# Altium schematic symbol library Sheye-Capacitor.SchLib: 213 symbols
Pins are listed as number, name and electrical type; pins without a type are passive.

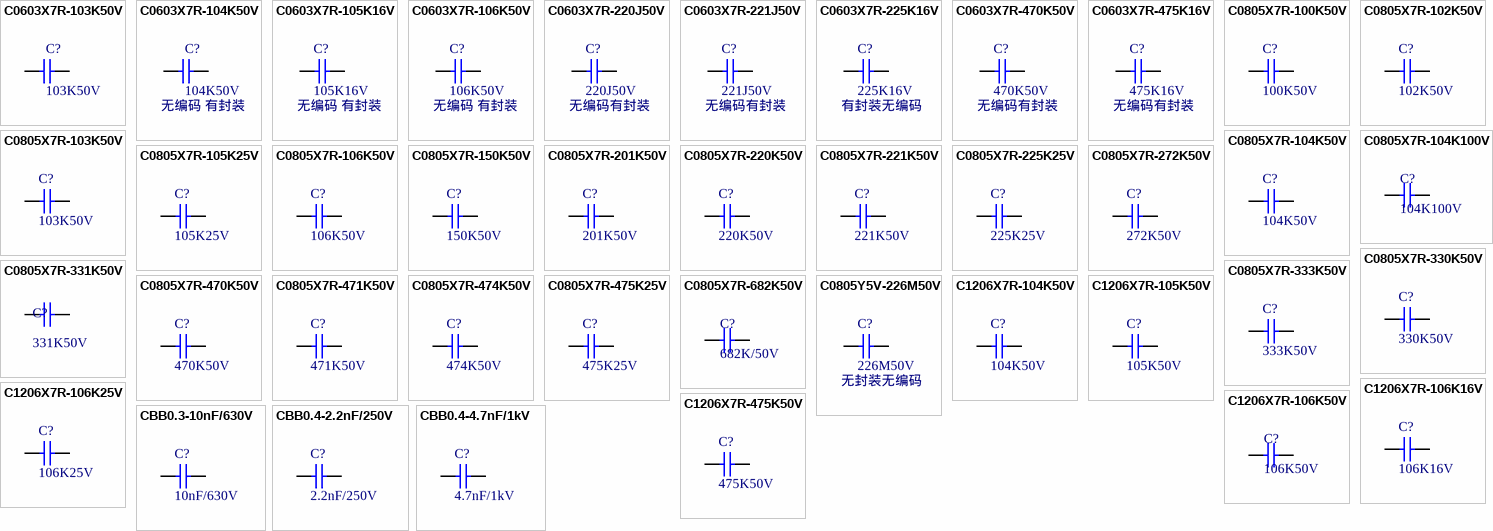
[diagram p0: symbols C0603X7R-103K50V to CBB0.4-4.7nF/1kV]

## C0603X7R-103K50V
designator C?, comment 103K50V
贴片电容-陶瓷; 规格型号: 10nF±10%_50V_X7R_C0603; 货品编码: 301075; 生产商|UNIQU: 风华 三星; 供应商: *; 备注: *
footprint C0603
pins: 1, 2

## C0603X7R-104K50V
designator C?, comment 104K50V
贴片电容-陶瓷; 规格型号: 100nF±10%_50V_X7R_C0603; 生产商|UNIQU: 风华 三星; 供应商: *; 备注: *
footprint C0603
pins: 1, 2
text: 无编码 有封装

## C0603X7R-105K16V
designator C?, comment 105K16V
贴片电容-陶瓷; 规格型号: 1uF±10%_16V_X7R_C0603; 生产商|UNIQU: 风华 三星; 供应商: *; 备注: *
footprint C0603
pins: 1, 2
text: 无编码 有封装

## C0603X7R-106K50V
designator C?, comment 106K50V
贴片电容-陶瓷; 规格型号: 10uF±10%_50V_X7R_C0603; 生产商|UNIQU: 风华 三星; 供应商: *; 备注: *
footprint C0603
pins: 1, 2
text: 无编码 有封装

## C0603X7R-220J50V
designator C?, comment 220J50V
贴片电容-陶瓷; 规格型号: 22pF±5%_50V_X7R_C0603; 生产商|UNIQU: 风华 三星; 供应商: *; 备注: *
footprint C0603
pins: 1, 2
text: 无编码有封装

## C0603X7R-221J50V
designator C?, comment 221J50V
贴片电容-陶瓷; 规格型号: 220pF±5%_50V_X7R_C0603; 生产商|UNIQU: 风华 三星; 供应商: *; 备注: *
footprint C0603
pins: 1, 2
text: 无编码有封装

## C0603X7R-225K16V
designator C?, comment 225K16V
贴片电容-陶瓷; 规格型号: 2.2uF±10%_16V_X7R_C0603; 生产商|UNIQU: 风华 三星; 供应商: *; 备注: *
footprint C0603
pins: 1, 2
text: 有封装无编码

## C0603X7R-470K50V
designator C?, comment 470K50V
贴片电容-陶瓷; 规格型号: 47pF±10%_50V_X7R_C0603; 生产商|UNIQU: 风华 三星; 供应商: *; 备注: *
footprint C0603
pins: 1, 2
text: 无编码有封装

## C0603X7R-475K16V
designator C?, comment 475K16V
贴片电容-陶瓷; 规格型号: 4.7uF±10%_16V_X7R_C0603; 生产商|UNIQU: 风华 三星; 供应商: *; 备注: *
footprint C0603
pins: 1, 2
text: 无编码有封装

## C0805X7R-100K50V
designator C?, comment 100K50V
贴片电容-陶瓷; 规格型号: 10pF±10%_50V_X7R_C0805; 货品编码: 301002; 生产商|UNIQU: 风华 三星; 供应商: *; 备注: *
footprint C0805
pins: 1, 2

## C0805X7R-102K50V
designator C?, comment 102K50V
贴片电容-陶瓷; 规格型号: 1nF±10%_50V_X7R_C0805; 货品编码: 301035; 生产商|UNIQU: 风华 三星; 供应商: *; 备注: *
footprint C0805
pins: 1, 2

## C0805X7R-103K50V
designator C?, comment 103K50V
贴片电容-陶瓷; 规格型号: 10nF±10%_50V_X7R_C0805; 货品编码: 301006; 生产商|UNIQU: 风华 三星; 供应商: *; 备注: *
footprint C0805
pins: 1, 2

## C0805X7R-104K50V
designator C?, comment 104K50V
贴片电容-陶瓷; 规格型号: 100nF±10%_50V_X7R_C0805; 货品编码: 301007; 生产商|UNIQU: 风华 三星; 供应商: *; 备注: *
footprint C0805
pins: 1, 2

## C0805X7R-104K100V
designator C?, comment 104K100V
贴片电容-陶瓷; 规格型号: 100nF±10%_100V_X7R_C0805; 货品编码: 301039; 供应商: *; 备注: *
footprint C0805
pins: 1, 2

## C0805X7R-105K25V
designator C?, comment 105K25V
贴片电容-陶瓷; 规格型号: 1uF±10%_25V_X7R_C0805; 货品编码: 301012; 生产商|UNIQU: 风华 三星; 供应商: *; 备注: *
footprint C0805
pins: 1, 2

## C0805X7R-106K50V
designator C?, comment 106K50V
贴片电容-陶瓷; 规格型号: 10uF±10%_50V_X7R_C0805; 货品编码: 301014; 生产商|UNIQU: 风华 三星; 供应商: *; 备注: *
footprint C0805
pins: 1, 2

## C0805X7R-150K50V
designator C?, comment 150K50V
贴片电容-陶瓷; 规格型号: 15pF±10%_50V_X7R_C0805; 货品编码: 301022; 生产商|UNIQU: 风华 三星; 供应商: *; 备注: *
footprint C0805
pins: 1, 2

## C0805X7R-201K50V
designator C?, comment 201K50V
贴片电容-陶瓷; 规格型号: 200pF±10%_50V_X7R_C0805; 货品编码: 301026; 生产商|UNIQU: 风华 三星; 供应商: *; 备注: *
footprint C0805
pins: 1, 2

## C0805X7R-220K50V
designator C?, comment 220K50V
贴片电容-陶瓷; 规格型号: 22pF±10%_50V_X7R_C0805; 货品编码: 301003; 生产商|UNIQU: 风华  三星; 供应商: *; 备注: *
footprint C0805
pins: 1, 2

## C0805X7R-221K50V
designator C?, comment 221K50V
贴片电容-陶瓷; 规格型号: 220pF±10%_50V_X7R_C0805; 品牌|UNIQUEI: 风华  三星; 货品编码: 301042; 供应商: *; 备注: *
footprint C0805
pins: 1, 2

## C0805X7R-225K25V
designator C?, comment 225K25V
贴片电容-陶瓷; 规格型号: 2.2uF±10%_25V_X7R_C0805; 货品编码: 301025; 生产商|UNIQU: 风华 三星; 供应商: *; 备注: *
footprint C0805
pins: 1, 2

## C0805X7R-272K50V
designator C?, comment 272K50V
贴片电容-陶瓷; 规格型号: 2.7nF±10%_50V_X7R_C0805; 货品编码: 301027; 生产商|UNIQU: 风华 三星; 供应商: *; 备注: *
footprint C0805
pins: 1, 2

## C0805X7R-330K50V
designator C?, comment 330K50V
贴片电容-陶瓷; 规格型号: 33pF±10%_50V_X7R_C0805; 货品编码: 301037; 生产商|UNIQU: 风华 三星; 供应商: *; 备注: *
footprint C0805
pins: 1, 2

## C0805X7R-331K50V
designator C?, comment 331K50V
贴片电容-陶瓷; 规格型号: 330pF±10%_50V_X7R_C0805; 货品编码: 301005; 备注: *; 供应商: *
footprint C0805
pins: 1, 2

## C0805X7R-333K50V
designator C?, comment 333K50V
贴片电容-陶瓷; 规格型号: 33nF±10%_50V_X7R_C0805; 货品编码: 301028; 生产商|UNIQU: 风华 三星; 供应商: *; 备注: *
footprint C0805
pins: 1, 2

## C0805X7R-470K50V
designator C?, comment 470K50V
贴片电容-陶瓷; 规格型号: 47pF±10%_50V_X7R_C0805; 货品编码: 301004; 生产商|UNIQU: 风华 三星; 供应商: *; 备注: *
footprint C0805
pins: 1, 2

## C0805X7R-471K50V
designator C?, comment 471K50V
贴片电容-陶瓷; 规格型号: 470pF±10%_50V_X7R_C0805; 货品编码: 301030; 生产商|UNIQU: 风华 三星; 供应商: *; 备注: *
footprint C0805
pins: 1, 2

## C0805X7R-474K50V
designator C?, comment 474K50V
贴片电容-陶瓷; 规格型号: 470nF±10%_50V_X7R_C1206; 货品编码: 301008; 生产商|UNIQU: 风华 三星; 供应商: *; 备注: *
footprint C0805
pins: 1, 2

## C0805X7R-475K25V
designator C?, comment 475K25V
贴片电容-陶瓷; 规格型号: 4.7uF±10%_25V_X7R_C0805; 货品编码: 301029; 生产商|UNIQU: 风华 三星; 供应商: *; 备注: *
footprint C0805
pins: 1, 2

## C0805X7R-682K50V
designator C?, comment 682K/50V
贴片电容-陶瓷; 货品编码: 301041; 规格型号: 4.7uF±10%_25V_X7R_C0805; 备注: *; 供应商: *
footprint C0805 (Footprint not found)
pins: 1, 2

## C0805Y5V-226M50V
designator C?, comment 226M50V
贴片电容-陶瓷; 规格型号: 22uF±20%_50V_Y5V_C0805; 生产商|UNIQU: 风华 三星; 供应商: *; 备注: *
footprint C0805
pins: 1, 2
text: 无封装无编码

## C1206X7R-104K50V
designator C?, comment 104K50V
贴片电容-陶瓷; 规格型号: 100nF±10%_50V_X7R_C1206; 货品编码: 301010; 生产商|UNIQU: 风华 三星; 供应商: *; 备注: *
footprint C1206
pins: 1, 2

## C1206X7R-105K50V
designator C?, comment 105K50V
贴片电容-陶瓷; 规格型号: 1uF±10%_50V_X7R_C1206; 货品编码: 301011; 生产商|UNIQU: 风华 三星; 供应商: *; 备注: *
footprint C1206
pins: 1, 2

## C1206X7R-106K16V
designator C?, comment 106K16V
贴片电容-陶瓷; 规格型号: 10uF±10%_16V_X7R_C1206; 货品编码: 301023; 生产商|UNIQU: 风华 三星; 供应商: *; 备注: *
footprint C1206
pins: 1, 2

## C1206X7R-106K25V
designator C?, comment 106K25V
贴片电容-陶瓷; 规格型号: 10uF±10%_25V_X7R_C1206; 货品编码: 301024; 生产商|UNIQU: 风华 三星; 供应商: *; 备注: *
footprint C1206
pins: 1, 2

## C1206X7R-106K50V
designator C?, comment 106K50V
贴片电容-陶瓷; 规格型号: 10uF±10%_50V_X7R_C1206; 货品编码: 301013; 备注: *; 供应商: *
footprint C1206 (Footprint not found)
pins: 1, 2

## C1206X7R-475K50V
designator C?, comment 475K50V
贴片电容-陶瓷; 规格型号: 4.7uF±10%_50V_X7R_C1206; 货品编码: 301009; 生产商|UNIQU: 风华 三星; 供应商: *; 备注: *
footprint C1206
pins: 1, 2

## CBB0.3-10nF/630V
designator C?, comment 10nF/630V
插件电容-CBB21; 规格型号: 10nF/630V_+105℃; 货品编码: 302007; 备注: *; 供应商: *
footprint C-RAD0.3-11.43X3.81 (RAD0.3)
pins: 1, 2

## CBB0.4-2.2nF/250V
designator C?, comment 2.2nF/250V
插件电容-CBB21; 规格型号: 2.2nF/250V_+105℃; 备注: *; 供应商: *
footprint C-RAD0.4-13X4.5 (RAD0.4(0.5/0.3))
pins: 1, 2

## CBB0.4-4.7nF/1kV
designator C?, comment 4.7nF/1kV
插件电容-CBB13; 规格型号: 4.7nF/1kV_+105℃; 货品编码: 302008; 备注: *; 供应商: *
footprint C-RAD0.4-13.71X7.62 (RAD0.4(0.5/0.3))
pins: 1, 2

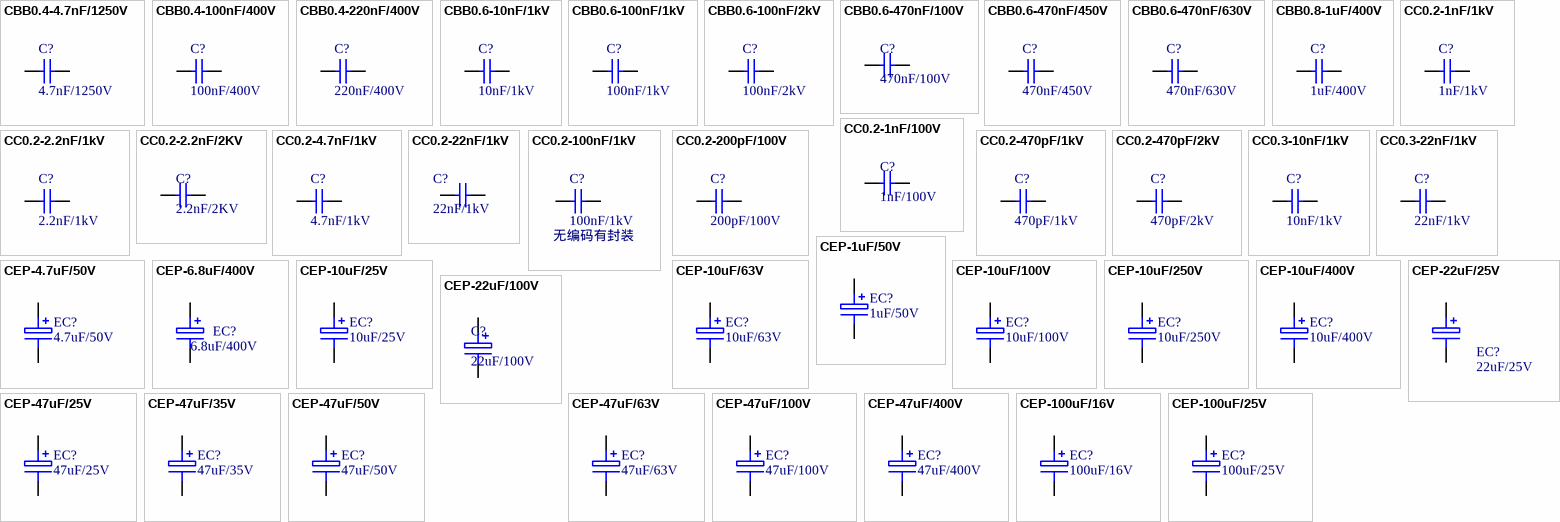
[diagram p1: symbols CBB0.4-4.7nF/1250V to CEP-100uF/25V]

## CBB0.4-4.7nF/1250V
designator C?, comment 4.7nF/1250V
插件电容-CBB22; 规格型号: 4.7nF/1250V_+105℃; 供应商: *
footprint C-RAD0.4-13.71X7.62 (RAD0.4(0.5/0.3))
pins: 1, 2

## CBB0.4-100nF/400V
designator C?, comment 100nF/400V
插件电容-CBB22; 规格型号: 100nF/400V_+105℃; 货品编码: 302016; 备注: *; 供应商: *
footprint C-RAD0.4-13.71X7.62 (RAD0.4(0.5/0.3))
pins: 1, 2

## CBB0.4-220nF/400V
designator C?, comment 220nF/400V
插件电容-CBB21; 规格型号: 220nF/400V_+105℃; 货品编码: 302070; 备注: *; 供应商: *
footprint C-RAD0.4-13.71X7.62 (RAD0.4(0.5/0.3))
pins: 1, 2

## CBB0.6-10nF/1kV
designator C?, comment 10nF/1kV
插件电容-CBB21; 规格型号: 10nF/1kV_+105℃; 货品编码: 302102; 备注: *; 供应商: *
footprint C-RAD0.6-20.32X6.09 (RAD0.6(0.8/0.23))
pins: 1, 2

## CBB0.6-100nF/1kV
designator C?, comment 100nF/1kV
插件电容-CBB21; 规格型号: 100nF/1kV_+105℃; 货品编码: 302009; 备注: *; 供应商: *
footprint C-RAD0.6-20.32X6.09 (RAD0.6(0.8/0.23))
pins: 1, 2

## CBB0.6-100nF/2kV
designator C?, comment 100nF/2kV
插件电容-CBB22; 规格型号: 100nF/2kV_+105℃; 货品编码: 302023; 备注: *; 供应商: *
footprint C-RAD0.6-20.32X9.65 (RAD0.6(0.8/0.4))
pins: 1, 2

## CBB0.6-470nF/100V
designator C?, comment 470nF/100V
插件电容-CBB21; 货品编码: 302011; 规格型号: 470nF/100V_+105℃; 备注: *; 供应商: *
footprint C-RAD0.6-20.32X9.65 (Footprint not found)
pins: 1, 2

## CBB0.6-470nF/450V
designator C?, comment 470nF/450V
插件电容-CBB21; 规格型号: 470nF/450V_+105℃; 货品编码: 302015; 备注: *; 供应商: *
footprint C-RAD0.6-20.32X9.65 (RAD0.6(0.8/0.4))
pins: 1, 2

## CBB0.6-470nF/630V
designator C?, comment 470nF/630V
插件电容-CBB21; 规格型号: 470nF/630V_+105℃; 货品编码: 302101; 备注: *; 供应商: *
footprint C-RAD0.6-20.32X9.65 (RAD0.6(0.8/0.4))
pins: 1, 2

## CBB0.8-1uF/400V
designator C?, comment 1uF/400V
插件电容-CBB21; 规格型号: 1uF/400V_+105℃; 货品编码: 302020; 生产商: Weidy; 备注: *; 供应商: *
footprint C-RAD0.8-23.87X7.62 (RAD0.8(0.9/0.3))
pins: 1, 2

## CC0.2-1nF/1kV
designator C?, comment 1nF/1kV
插件电容-陶瓷; 货品编码: 302111; 备注: *; 供应商: *
footprint C-RAD0.2-7.62X2.54
pins: 1, 2

## CC0.2-1nF/100V
designator C?, comment 1nF/100V
插件电容-瓷片; 货品编码: 302089; 规格型号: 2.2nF/1kV_+105℃; 供应商: *; 备注: *
footprint C-RAD0.2-7.62X2.54 (Footprint not found)
pins: 1, 2

## CC0.2-2.2nF/1kV
designator C?, comment 2.2nF/1kV
插件电容-陶瓷; 规格型号: 2.2nF/1kV_+105℃; 货品编码: 302112; 备注: *; 供应商: *
footprint C-RAD0.2-7.62X2.54
pins: 1, 2

## CC0.2-2.2nF/2KV
designator C?, comment 2.2nF/2KV
插件电容-陶瓷; 货品编码: 302085; 规格型号: 2.2nF/2kV_+105℃; 供应商: *; 备注: *
footprint C-RAD0.2-7.62X2.54 (Footprint not found)
pins: 1, 2

## CC0.2-4.7nF/1kV
designator C?, comment 4.7nF/1kV
插件电容-陶瓷; 货品编码: 302114; 备注: *; 供应商: *
footprint C-RAD0.2-7.62X2.54
pins: 1, 2

## CC0.2-22nF/1kV
designator C?, comment 22nF/1kV
插件电容-陶瓷; 货品编码: 302126; 规格型号: 22nF/1kV_+105℃; 生产商: *; 供应商: *; 备注: *
pins: 1, 2

## CC0.2-100nF/1kV
designator C?, comment 100nF/1kV
插件电容-陶瓷; 规格型号: 100nF/1kV_+105℃; 备注: *; 供应商: *
footprint C-RAD0.2-7.62X2.54
pins: 1, 2
text: 无编码有封装

## CC0.2-200pF/100V
designator C?, comment 200pF/100V
插件电容-陶瓷; 规格型号: 200pF/100V_+105℃; 货品编码: 302090; 备注: *; 供应商: *
footprint C-RAD0.2-8.89X3.81 (RAD0.2)
pins: 1, 2

## CC0.2-470pF/1kV
designator C?, comment 470pF/1kV
插件电容-陶瓷; 规格型号: 470pF/1kV_+105℃; 货品编码: 302004; 备注: *; 供应商: *
footprint C-RAD0.2-7.62X2.54
pins: 1, 2

## CC0.2-470pF/2kV
designator C?, comment 470pF/2kV
插件电容-陶瓷; 规格型号: 470pF/2kV_+105℃; 货品编码: 302005; 备注: *; 供应商: *
footprint C-RAD0.2-8.89X3.81 (RAD0.2)
pins: 1, 2

## CC0.3-10nF/1kV
designator C?, comment 10nF/1kV
插件电容-陶瓷; 规格型号: 10nF/1kV_+105℃; 货品编码: 302086; 生产商: Weidy; 备注: *; 供应商: *
footprint C-RAD0.3-11.43X3.81 (RAD0.3)
pins: 1, 2

## CC0.3-22nF/1kV
designator C?, comment 22nF/1kV
插件电容-陶瓷; 规格型号: 22nF/1kV_+105℃; 货品编码: 302067; 生产商: Weidy; 备注: *; 供应商: *
footprint C-RAD0.3-11.43X3.81 (RAD0.3)
pins: 1, 2

## CEP-1uF/50V
designator EC?, comment 1uF/50V
插件电容-铝电解; 规格型号|UNIQUEI: 1uF/50V_±20%_+105℃; 货品编码: 302092; 生产商: 江海; 备注: *; 供应商: *
footprint CD5X11.5 (C-RB1.5/5)
pins: 1, 2

## CEP-4.7uF/50V
designator EC?, comment 4.7uF/50V
插件电容-铝电解; 规格型号|UNIQUEI: 4.7uF/50V_±20%_+105℃; 货品编码: 302077; 生产商: 江海; 备注: *; 供应商: *
footprint CD5X11.5 (C-RB1.5/5)
pins: 1, 2

## CEP-6.8uF/400V
designator EC?, comment 6.8uF/400V
插件电容-铝电解; 规格型号|UNIQUEI: 6.8uF/400V_±20%_+105℃; 生产商: 江海; 备注: *; 供应商: *
footprint CD10X13 (C-RB5/10)
pins: 1, 2

## CEP-10uF/25V
designator EC?, comment 10uF/25V
插件电容-铝电解; 规格型号|UNIQUEI: 10uF_25V_±20%_+105℃; 货品编码: 302024; 生产商: 江海; 备注: *; 供应商: *
footprint CD5X11.5 (C-RB1.5/5)
pins: 1, 2

## CEP-10uF/63V
designator EC?, comment 10uF/63V
插件电容-铝电解; 规格型号|UNIQUEI: 10uF/63V_±20%_+105℃; 货品编码: 302042; 生产商: 江海; 备注: *; 供应商: *
footprint CD5X11.5 (C-RB1.5/5)
pins: 1, 2

## CEP-10uF/100V
designator EC?, comment 10uF/100V
插件电容-铝电解; 规格型号|UNIQUEI: 10uF/100V_±20%_+105℃; 货品编码: 302078; 生产商: 江海; 备注: *; 供应商: *
footprint CD6.3X11.5 (C-RB2/6.4)
pins: 1, 2

## CEP-10uF/250V
designator EC?, comment 10uF/250V
插件电容-铝电解; 规格型号|UNIQUEI: 10uF/250V_±20%_+105℃; 货品编码: 302065; 生产商: 江海; 备注: *; 供应商: *
footprint CD10X12.5 (C-RB5/10)
pins: 1, 2

## CEP-10uF/400V
designator EC?, comment 10uF/400V
插件电容-铝电解; 规格型号|UNIQUEI: 10uF/400V_±20%_+105℃; 货品编码: 302079; 生产商: 江海; 备注: *; 供应商: *
footprint CD12.5X20 (C-RB5/12.5)
pins: 1, 2

## CEP-22uF/25V
designator EC?, comment 22uF/25V
插件电容-铝电解; 规格型号|UNIQUEI: 22uF/25V_±20%_+105℃; 货品编码: 302029; 生产商: 江海; 备注: *; 供应商: *
footprint CD5X11.5 (C-RB1.5/5)
pins: 1, 2

## CEP-22uF/100V
designator C?, comment 22uF/100V
插件电容-铝电解; 货品编码: 302105; 规格型号|UNIQUEI: 22uF/25V_±20%_+105℃; 备注: *; 供应商: *
footprint CD6.3X11.5 (Footprint not found)
pins: 1, 2

## CEP-47uF/25V
designator EC?, comment 47uF/25V
插件电容-铝电解; 规格型号|UNIQUEI: 47uF/25V_±20%_+105℃; 货品编码: 302030; 生产商: 江海; 备注: *; 供应商: *
footprint CD5X11.5 (C-RB1.5/5)
pins: 1, 2

## CEP-47uF/35V
designator EC?, comment 47uF/35V
插件电容-铝电解; 规格型号|UNIQUEI: 47uF/35V_±20%_+105℃; 货品编码: 302035; 生产商: 江海; 备注: *; 供应商: *
footprint CD5X11.5 (C-RB1.5/5)
pins: 1, 2

## CEP-47uF/50V
designator EC?, comment 47uF/50V
插件电容-铝电解; 规格型号|UNIQUEI: 47uF/50V_±20%_+105℃; 货品编码: 302041; 生产商: 江海; 备注: *; 供应商: *
footprint CD6.3X11.5 (C-RB2/6.4)
pins: 1, 2

## CEP-47uF/63V
designator EC?, comment 47uF/63V
插件电容-铝电解; 规格型号|UNIQUEI: 47uF/63V_±20%_+105℃; 货品编码: 302017; 生产商: 江海; 备注: *; 供应商: *
footprint CD8X11.5 (C-RB3.4/8)
pins: 1, 2

## CEP-47uF/100V
designator EC?, comment 47uF/100V
插件电容-铝电解; 规格型号|UNIQUEI: 47uF/100V_±20%_+105℃; 货品编码: 302046; 生产商: 江海; 备注: *; 供应商: *
footprint CD10X12.5 (C-RB5/10)
pins: 1, 2

## CEP-47uF/400V
designator EC?, comment 47uF/400V
插件电容-铝电解; 规格型号|UNIQUEI: 47uF/400V_±20%_+105℃; 货品编码: 302051; 生产商: 江海; 备注: *; 供应商: *
footprint CD16X31.5 (C-RB8/16)
pins: 1, 2

## CEP-100uF/16V
designator EC?, comment 100uF/16V
插件电容-铝电解; 规格型号|UNIQUEI: 100uF/16V_±20%_+105℃; 货品编码: 302028; 生产商: 江海; 备注: *; 供应商: *
footprint CD5X11.5 (C-RB1.5/5)
pins: 1, 2

## CEP-100uF/25V
designator EC?, comment 100uF/25V
插件电容-铝电解; 规格型号|UNIQUEI: 100uF/25V_±20%_+105℃; 货品编码: 302031; 生产商: 江海; 备注: *; 供应商: *
footprint CD6.3X11.5 (C-RB2/6.4)
pins: 1, 2

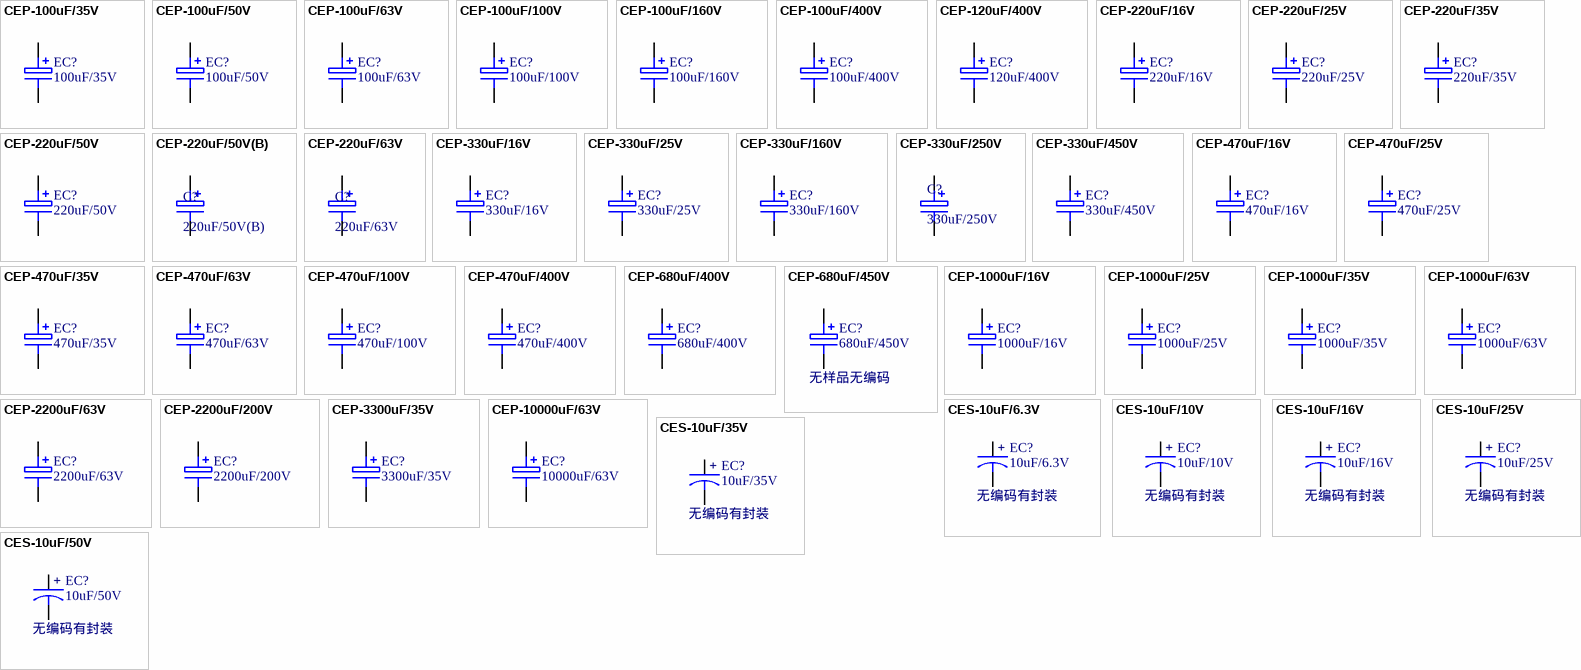
[diagram p2: symbols CEP-100uF/35V to CES-10uF/50V]

## CEP-100uF/35V
designator EC?, comment 100uF/35V
插件电容-铝电解; 规格型号|UNIQUEI: 100uF/35V_±20%_+105℃; 货品编码: 302036; 生产商: 江海; 备注: *; 供应商: *
footprint CD6.3X11.5 (C-RB2/6.4)
pins: 1, 2

## CEP-100uF/50V
designator EC?, comment 100uF/50V
插件电容-铝电解; 规格型号|UNIQUEI: 100uF/50V_±20%_+105℃; 货品编码: 302055; 生产商: 江海; 备注: *; 供应商: *
footprint CD8X11.5 (C-RB3.4/8)
pins: 1, 2

## CEP-100uF/63V
designator EC?, comment 100uF/63V
插件电容-铝电解; 规格型号|UNIQUEI: 100uF/63V_±20%_+105℃; 货品编码: 302043; 生产商: 江海; 备注: *; 供应商: *
footprint CD10X12.5 (C-RB5/10)
pins: 1, 2

## CEP-100uF/100V
designator EC?, comment 100uF/100V
插件电容-铝电解; 规格型号|UNIQUEI: 100uF/100V_±20%_+105℃; 货品编码: 302076; 生产商: 江海; 备注: *; 供应商: *
footprint CD12.5X20 (C-RB5/12.5)
pins: 1, 2

## CEP-100uF/160V
designator EC?, comment 100uF/160V
插件电容-铝电解; 规格型号|UNIQUEI: 100uF/160V_±20%_+105℃; 货品编码: 302066; 生产商: 江海; 备注: *; 供应商: *
footprint CD12.5X25 (C-RB5/12.5)
pins: 1, 2

## CEP-100uF/400V
designator EC?, comment 100uF/400V
插件电容-铝电解; 规格型号|UNIQUEI: 100uF/400V_±20%_+105℃; 货品编码: 302052; 生产商: 江海; 备注: *; 供应商: *
footprint CD18X35.5 (C-RB9/18)
pins: 1, 2

## CEP-120uF/400V
designator EC?, comment 120uF/400V
插件电容-铝电解; 规格型号|UNIQUEI: 120uF/400V_±20%_+105℃; 货品编码: 302053; 生产商: 江海; 备注: *; 供应商: *
footprint CD25X30
pins: 1, 2

## CEP-220uF/16V
designator EC?, comment 220uF/16V
插件电容-铝电解; 规格型号|UNIQUEI: 220uF/16V_±20%_+105℃; 货品编码: 302026; 生产商: 江海; 备注: *; 供应商: *
footprint CD6.3X11.5 (C-RB2/6.4)
pins: 1, 2

## CEP-220uF/25V
designator EC?, comment 220uF/25V
插件电容-铝电解; 规格型号|UNIQUEI: 220uF/25V_±20%_+105℃; 货品编码: 302032; 生产商: 江海; 备注: *; 供应商: *
footprint CD6.3X11.5 (C-RB2/6.4)
pins: 1, 2

## CEP-220uF/35V
designator EC?, comment 220uF/35V
插件电容-铝电解; 规格型号|UNIQUEI: 220uF/35V_±20%_+105℃; 货品编码: 302037; 生产商: 江海; 备注: *; 供应商: *
footprint CD8X11.5 (C-RB3.4/8)
footprint CD10X12.5 (C-RB5/10)
pins: 1, 2

## CEP-220uF/50V
designator EC?, comment 220uF/50V
插件电容-铝电解; 规格型号|UNIQUEI: 220uF/50V_±20%_+105℃; 货品编码: 302094; 生产商: 江海; 备注: *; 供应商: *
footprint CD10X12.5 (C-RB5/10)
pins: 1, 2

## CEP-220uF/50V(B)
designator C?, comment 220uF/50V(B)
插件电容-铝电解; 货品编码: 302100; 规格型号|UNIQUEI: 220uF/50V_±20%_+105℃; 供应商: *; 备注: *
footprint CD8X11.5 (Footprint not found)
pins: 1, 2

## CEP-220uF/63V
designator C?, comment 220uF/63V
插件电容-铝电解; 货品编码: 302095; 规格型号|UNIQUEI: 220uF_63V_±10%_+105℃; 供应商: *; 备注: *
footprint CD18X35.5 (Footprint not found)
pins: 1, 2

## CEP-330uF/16V
designator EC?, comment 330uF/16V
插件电容-铝电解; 规格型号|UNIQUEI: 330uF/16V_±20%_+105℃; 货品编码: 302025; 生产商: 江海; 备注: *; 供应商: *
footprint CD8X11.5 (C-RB3.4/8)
pins: 1, 2

## CEP-330uF/25V
designator EC?, comment 330uF/25V
插件电容-铝电解; 规格型号|UNIQUEI: 330uF/25V_±20%_+105℃; 货品编码: 302033; 生产商: 江海; 备注: *; 供应商: *
footprint CD8X11.5 (C-RB3.4/8)
pins: 1, 2

## CEP-330uF/160V
designator EC?, comment 330uF/160V
插件电容-铝电解; 规格型号|UNIQUEI: 330uF/160V_±20%_+105℃; 货品编码: 302049; 生产商: 江海; 备注: *; 供应商: *
footprint CD18X35.5 (C-RB9/18)
pins: 1, 2

## CEP-330uF/250V
designator C?, comment 330uF/250V
插件电容-铝电解; 货品编码|UNIQU: 302103无封装; 规格型号|UNIQUEI: 330uF/160V_±20%_+105℃; 供应商: *; 备注: *
pins: 1, 2

## CEP-330uF/450V
designator EC?, comment 330uF/450V
插件电容-铝电解; 规格型号|UNI: CD29C系列 330uF/450V_±20%_+105℃; 货品编码: 302110; 生产商: 江海; 备注: *; 供应商: *
footprint CD25X50
pins: 1, 2

## CEP-470uF/16V
designator EC?, comment 470uF/16V
插件电容-铝电解; 规格型号|UNIQUEI: 470uF/16V_±20%_+105℃; 货品编码: 302027; 生产商: 江海; 备注: *; 供应商: *
footprint CD8X11.5 (C-RB3.4/8)
pins: 1, 2

## CEP-470uF/25V
designator EC?, comment 470uF/25V
插件电容-铝电解; 规格型号|UNIQUEI: 470uF/25V_±20%_+105℃; 货品编码: 302034; 生产商: 江海; 备注: *; 供应商: *
footprint CD8X11.5 (C-RB3.4/8)
pins: 1, 2

## CEP-470uF/35V
designator EC?, comment 470uF/35V
插件电容-铝电解; 规格型号|UNIQUEI: 470uF/35V_±20%_+105℃; 货品编码: 302038; 生产商: 江海; 备注: *; 供应商: *
footprint CD10X12.5 (C-RB5/10)
pins: 1, 2

## CEP-470uF/63V
designator EC?, comment 470uF/63V
插件电容-铝电解; 规格型号|UNIQUEI: 470uF/63V_±20%_+105℃; 货品编码: 302044; 生产商: 江海; 备注: *; 供应商: *
footprint CD12.5X20 (C-RB5/12.5)
pins: 1, 2

## CEP-470uF/100V
designator EC?, comment 470uF/100V
插件电容-铝电解; 规格型号|UNIQUEI: 470uF/100V_±20%_+105℃; 货品编码: 302048; 生产商: 江海; 备注: *; 供应商: *
footprint CD16X20 (C-RB8/16)
pins: 1, 2

## CEP-470uF/400V
designator EC?, comment 470uF/400V
插件电容-铝电解; 规格型号|UNIQUEI: 470uF/400V_±20%_+105℃; 货品编码: 302054; 生产商: 江海; 备注: *; 供应商: *
footprint CD36X45 (C-RB10/36)
pins: 1, 2

## CEP-680uF/400V
designator EC?, comment 680uF/400V
插件电容-铝电解; 规格型号|UNIQUEI: 680uF/400V_±20%_+105℃; 货品编码: 302104; 生产商: 江海; 备注: *; 供应商: *
footprint CD36X50 (C-RB10/36)
pins: 1, 2

## CEP-680uF/450V
designator EC?, comment 680uF/450V
插件电容-铝电解; 规格型号|UNIQUEI: 680uF/450V_±20%_+105℃; 生产商: 江海; 备注: *; 供应商: *
footprint CD36X50 (C-RB10/36)
pins: 1, 2
text: 无样品无编码

## CEP-1000uF/16V
designator EC?, comment 1000uF/16V
插件电容-铝电解; 规格型号|UNIQUEI: 1000uF/16V_±20%_+105℃; 货品编码: 302040; 生产商: 江海; 备注: *; 供应商: *
footprint CD10X12.5 (C-RB5/10)
pins: 1, 2

## CEP-1000uF/25V
designator EC?, comment 1000uF/25V
插件电容-铝电解; 规格型号|UNIQUEI: 1000uF/25V_±20%_+105℃; 货品编码: 302088; 生产商: 江海; 备注: *; 供应商: *
footprint CD12.5X20 (C-RB5/12.5)
pins: 1, 2

## CEP-1000uF/35V
designator EC?, comment 1000uF/35V
插件电容-铝电解; 规格型号|UNIQUEI: 1000uF/35V_±20%_+105℃; 货品编码: 302039; 生产商: 江海; 备注: *; 供应商: *
footprint CD12.5X20 (C-RB5/12.5)
pins: 1, 2

## CEP-1000uF/63V
designator EC?, comment 1000uF/63V
插件电容-铝电解; 规格型号|UNIQUEI: 1000uF/63V_±20%_+105℃ CD263; 货品编码: 302115; 生产商: 江海; 备注: *; 供应商: *
footprint CD16X31.5 (C-RB8/16)
pins: 1, 2

## CEP-2200uF/63V
designator EC?, comment 2200uF/63V
插件电容-铝电解; 规格型号|UNIQUEI: 2200uF/63V_±20%_+105℃; 货品编码: 302093; 生产商: 江海; 备注: *; 供应商: *
footprint CD18X35.5 (C-RB9/18)
pins: 1, 2

## CEP-2200uF/200V
designator EC?, comment 2200uF/200V
插件电容-铝电解; 规格型号|UNIQUEI: 2200uF/200V_±20%_+105℃; 货品编码: 302050; 生产商: 江海; 备注: *; 供应商: *
footprint CD36X50 (C-RB10/36)
pins: 1, 2

## CEP-3300uF/35V
designator EC?, comment 3300uF/35V
插件电容-铝电解; 规格型号|UNIQUEI: 3300uF/35V_±20%_+105℃ CD263; 货品编码: 302116; 生产商: 江海; 备注: *; 供应商: *
footprint CD16X31.5 (C-RB8/16)
pins: 1, 2

## CEP-10000uF/63V
designator EC?, comment 10000uF/63V
插件电容-铝电解; 规格型号|UNIQUEI: 10000uF/63V_±20%_+105℃; 货品编码: 302045; 生产商: 江海; 备注: *; 供应商: *
footprint CD36X50 (C-RB10/36)
pins: 1, 2

## CES-10uF/6.3V
designator EC?, comment 10uF/6.3V
贴片铝电解电容; 生产商: 三星; 规格型号|UNIQUEI: 10uF_6.3V_±10%_+105℃; 备注: *; 供应商: *
footprint CD3X5.3SMD
pins: 1, 2
text: +; 无编码有封装

## CES-10uF/10V
designator EC?, comment 10uF/10V
贴片铝电解电容; 生产商: 三星; 规格型号|UNIQUEI: 10uF_10V_±10%_+105℃; 备注: *; 供应商: *
footprint CD4X5.3SMD
pins: 1, 2
text: +; 无编码有封装

## CES-10uF/16V
designator EC?, comment 10uF/16V
贴片铝电解电容; 生产商: 三星; 规格型号|UNIQUEI: 10uF_16V_±10%_+105℃; 备注: *; 供应商: *
footprint CD4X5.3SMD
pins: 1, 2
text: +; 无编码有封装

## CES-10uF/25V
designator EC?, comment 10uF/25V
贴片铝电解电容; 生产商: 三星; 规格型号|UNIQUEI: 10uF_25V_±10%_+105℃; 备注: *; 供应商: *
footprint CD5X5.3SMD
pins: 1, 2
text: +; 无编码有封装

## CES-10uF/35V
designator EC?, comment 10uF/35V
贴片铝电解电容; 生产商: 三星; 规格型号|UNIQUEI: 10uF_35V_±10%_+105℃; 备注: *; 供应商: *
footprint CD5X5.3SMD
pins: 1, 2
text: +; 无编码有封装

## CES-10uF/50V
designator EC?, comment 10uF/50V
贴片铝电解电容; 生产商: 三星; 规格型号|UNIQUEI: 10uF_50V_±10%_+105℃; 备注: *; 供应商: *
footprint CD5X5.3SMD
pins: 1, 2
text: +; 无编码有封装

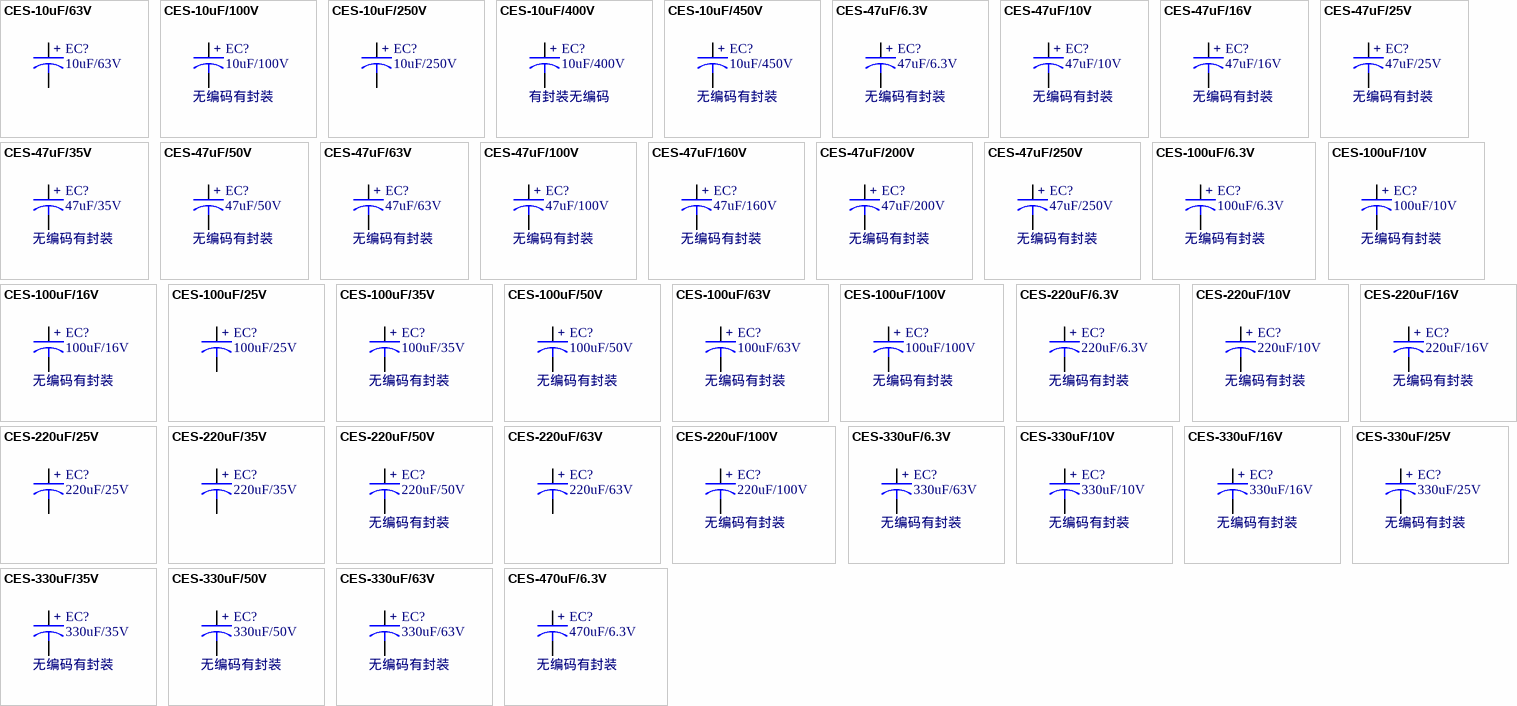
[diagram p3: symbols CES-10uF/63V to CES-470uF/6.3V]

## CES-10uF/63V
designator EC?, comment 10uF/63V
贴片铝电解电容; 生产商: 三星; 货品编码: 301032; 规格型号|UNIQUEI: 10uF_63V_±10%_+105℃; 备注: *; 供应商: *
footprint CD6.3X5.3SMD
pins: 1, 2
text: +

## CES-10uF/100V
designator EC?, comment 10uF/100V
贴片铝电解电容; 生产商: 三星; 规格型号|UNIQUEI: 10uF_100V_±10%_+105℃; 备注: *; 供应商: *
footprint CD8X10.5SMD
pins: 1, 2
text: +; 无编码有封装

## CES-10uF/250V
designator EC?, comment 10uF/250V
贴片铝电解电容; 生产商: 三星; 货品编码: 302106; 规格型号|UNIQUEI: 10uF_250V_±10%_+105℃; 备注: *; 供应商: *
footprint CD12.5X13.5SMD
pins: 1, 2
text: +

## CES-10uF/400V
designator EC?, comment 10uF/400V
贴片铝电解电容; 生产商: 三星; 规格型号|UNIQUEI: 10uF_400V_±10%_+105℃; 备注: *; 供应商: *
footprint CD12.5X13.5SMD
pins: 1, 2
text: +; 有封装无编码

## CES-10uF/450V
designator EC?, comment 10uF/450V
贴片铝电解电容; 生产商: 三星; 规格型号|UNIQUEI: 10uF_450V_±10%_+105℃; 备注: *; 供应商: *
footprint CD16X16.5SMD
pins: 1, 2
text: +; 无编码有封装

## CES-47uF/6.3V
designator EC?, comment 47uF/6.3V
贴片铝电解电容; 生产商: 三星; 规格型号|UNIQUEI: 47uF_6.3V_±10%_+105℃; 备注: *; 供应商: *
footprint CD5X5.3SMD
pins: 1, 2
text: +; 无编码有封装

## CES-47uF/10V
designator EC?, comment 47uF/10V
贴片铝电解电容; 生产商: 三星; 规格型号|UNIQUEI: 47uF_10V_±10%_+105℃; 备注: *; 供应商: *
footprint CD6.3X5.3SMD
pins: 1, 2
text: +; 无编码有封装

## CES-47uF/16V
designator EC?, comment 47uF/16V
贴片铝电解电容; 生产商: 三星; 规格型号|UNIQUEI: 47uF_16V_±10%_+105℃; 备注: *; 供应商: *
footprint CD6.3X5.3SMD
pins: 1, 2
text: +; 无编码有封装

## CES-47uF/25V
designator EC?, comment 47uF/25V
贴片铝电解电容; 生产商: 三星; 规格型号|UNIQUEI: 47uF_25V_±10%_+105℃; 备注: *; 供应商: *
footprint CD6.3x8SMD
pins: 1, 2
text: +; 无编码有封装

## CES-47uF/35V
designator EC?, comment 47uF/35V
贴片铝电解电容; 生产商: 三星; 规格型号|UNIQUEI: 47uF_35V_±10%_+105℃; 备注: *; 供应商: *
footprint CD6.3x8SMD
pins: 1, 2
text: +; 无编码有封装

## CES-47uF/50V
designator EC?, comment 47uF/50V
贴片铝电解电容; 生产商: 三星; 规格型号|UNIQUEI: 47uF_50V_±10%_+105℃; 备注: *; 供应商: *
footprint CD8X10.5SMD
pins: 1, 2
text: +; 无编码有封装

## CES-47uF/63V
designator EC?, comment 47uF/63V
贴片铝电解电容; 生产商: 三星; 规格型号|UNIQUEI: 47uF_63V_±10%_+105℃; 备注: *; 供应商: *
footprint CD10X10.5SMD
pins: 1, 2
text: +; 无编码有封装

## CES-47uF/100V
designator EC?, comment 47uF/100V
贴片铝电解电容; 生产商: 三星; 规格型号|UNIQUEI: 47uF_100V_±10%_+105℃; 备注: *; 供应商: *
footprint CD8X10.5SMD
pins: 1, 2
text: +; 无编码有封装

## CES-47uF/160V
designator EC?, comment 47uF/160V
贴片铝电解电容; 生产商: 三星; 规格型号|UNIQUEI: 47uF_160V_±10%_+105℃; 备注: *; 供应商: *
footprint CD12.5X16SMD
pins: 1, 2
text: +; 无编码有封装

## CES-47uF/200V
designator EC?, comment 47uF/200V
贴片铝电解电容; 生产商: 三星; 规格型号|UNIQUEI: 47uF_200V_±10%_+105℃; 备注: *; 供应商: *
footprint CD16X16.5SMD
pins: 1, 2
text: +; 无编码有封装

## CES-47uF/250V
designator EC?, comment 47uF/250V
贴片铝电解电容; 生产商: 三星; 规格型号|UNIQUEI: 47uF_250V_±10%_+105℃; 备注: *; 供应商: *
footprint CD16X16.5SMD
pins: 1, 2
text: +; 无编码有封装

## CES-100uF/6.3V
designator EC?, comment 100uF/6.3V
贴片铝电解电容; 生产商: 三星; 规格型号|UNIQUEI: 100uF_6.3V_±10%_+105℃; 备注: *; 供应商: *
footprint CD6.3X5.3SMD
pins: 1, 2
text: +; 无编码有封装

## CES-100uF/10V
designator EC?, comment 100uF/10V
贴片铝电解电容; 生产商: 三星; 规格型号|UNIQUEI: 100uF_10V_±10%_+105℃; 备注: *; 供应商: *
footprint CD6.3x8SMD
pins: 1, 2
text: +; 无编码有封装

## CES-100uF/16V
designator EC?, comment 100uF/16V
贴片铝电解电容; 生产商: 三星; 规格型号|UNIQUEI: 100uF_16V_±10%_+105℃; 备注: *; 供应商: *
footprint CD6.3x8SMD
pins: 1, 2
text: +; 无编码有封装

## CES-100uF/25V
designator EC?, comment 100uF/25V
贴片铝电解电容; 生产商: 三星; 货品编码: 301031; 规格型号|UNIQUEI: 100uF_25V_±10%_+105℃; 备注: *; 供应商: *
footprint CD6.3x8SMD
pins: 1, 2
text: +

## CES-100uF/35V
designator EC?, comment 100uF/35V
贴片铝电解电容; 生产商: 三星; 规格型号|UNIQUEI: 100uF_35V_±10%_+105℃; 备注: *; 供应商: *
footprint CD8X10.5SMD
pins: 1, 2
text: +; 无编码有封装

## CES-100uF/50V
designator EC?, comment 100uF/50V
贴片铝电解电容; 生产商: 三星; 规格型号|UNIQUEI: 100uF_50V_±10%_+105℃; 备注: *; 供应商: *
footprint CD8X10.5SMD
pins: 1, 2
text: +; 无编码有封装

## CES-100uF/63V
designator EC?, comment 100uF/63V
贴片铝电解电容; 生产商: 三星; 规格型号|UNIQUEI: 100uF_63V_±10%_+105℃; 备注: *; 供应商: *
footprint CD10X10.5SMD
pins: 1, 2
text: +; 无编码有封装

## CES-100uF/100V
designator EC?, comment 100uF/100V
贴片铝电解电容; 生产商: 三星; 规格型号|UNIQUEI: 100uF_100V_±10%_+105℃; 备注: *; 供应商: *
footprint CD12.5X13.5SMD
pins: 1, 2
text: +; 无编码有封装

## CES-220uF/6.3V
designator EC?, comment 220uF/6.3V
贴片铝电解电容; 生产商: 三星; 规格型号|UNIQUEI: 220uF_6.3V_±10%_+105℃; 备注: *; 供应商: *
footprint CD6.3x8SMD
pins: 1, 2
text: +; 无编码有封装

## CES-220uF/10V
designator EC?, comment 220uF/10V
贴片铝电解电容; 生产商: 三星; 规格型号|UNIQUEI: 220uF_10V_±10%_+105℃; 备注: *; 供应商: *
footprint CD8X10.5SMD
pins: 1, 2
text: +; 无编码有封装

## CES-220uF/16V
designator EC?, comment 220uF/16V
贴片铝电解电容; 生产商: 三星; 规格型号|UNIQUEI: 220uF_16V_±10%_+105℃; 备注: *; 供应商: *
footprint CD8X10.5SMD
pins: 1, 2
text: +; 无编码有封装

## CES-220uF/25V
designator EC?, comment 220uF/25V
贴片铝电解电容; 生产商: 三星; 货品编码: 301033; 规格型号|UNIQUEI: 220uF_25V_±10%_+105℃; 备注: *; 供应商: *
footprint CD8X10.5SMD
pins: 1, 2
text: +

## CES-220uF/35V
designator EC?, comment 220uF/35V
贴片铝电解电容; 生产商: 三星; 货品编码: 301040; 规格型号|UNIQUEI: 220uF_35V_±10%_+105℃; 备注: *; 供应商: *
footprint CD10X10.5SMD
pins: 1, 2
text: +

## CES-220uF/50V
designator EC?, comment 220uF/50V
贴片铝电解电容; 生产商: 三星; 规格型号|UNIQUEI: 220uF_50V_±10%_+105℃; 备注: *; 供应商: *
footprint CD10X10.5SMD
pins: 1, 2
text: +; 无编码有封装

## CES-220uF/63V
designator EC?, comment 220uF/63V
贴片铝电解电容; 生产商: 三星; 货品编码: 301038; 规格型号|UNIQUEI: 220uF_63V_±10%_+105℃; 备注: *; 供应商: *
footprint CD12.5X13.5SMD
pins: 1, 2
text: +

## CES-220uF/100V
designator EC?, comment 220uF/100V
贴片铝电解电容; 生产商: 三星; 规格型号|UNIQUEI: 220uF_100V_±10%_+105℃; 备注: *; 供应商: *
footprint CD16X16.5SMD
pins: 1, 2
text: +; 无编码有封装

## CES-330uF/6.3V
designator EC?, comment 330uF/63V
贴片铝电解电容; 生产商: 三星; 规格型号|UNIQUEI: 330uF_6.3V_±10%_+105℃; 备注: *; 供应商: *
footprint CD6.3x8SMD
pins: 1, 2
text: +; 无编码有封装

## CES-330uF/10V
designator EC?, comment 330uF/10V
贴片铝电解电容; 生产商: 三星; 规格型号|UNIQUEI: 330uF_10V_±10%_+105℃; 备注: *; 供应商: *
footprint CD8X10.5SMD
pins: 1, 2
text: +; 无编码有封装

## CES-330uF/16V
designator EC?, comment 330uF/16V
贴片铝电解电容; 生产商: 三星; 规格型号|UNIQUEI: 330uF_16V_±10%_+105℃; 备注: *; 供应商: *
footprint CD8X10.5SMD
pins: 1, 2
text: +; 无编码有封装

## CES-330uF/25V
designator EC?, comment 330uF/25V
贴片铝电解电容; 生产商: 三星; 规格型号|UNIQUEI: 330uF_25V_±10%_+105℃; 备注: *; 供应商: *
footprint CD10X10.5SMD
pins: 1, 2
text: +; 无编码有封装

## CES-330uF/35V
designator EC?, comment 330uF/35V
贴片铝电解电容; 生产商: 三星; 规格型号|UNIQUEI: 330uF_35V_±10%_+105℃; 备注: *; 供应商: *
footprint CD10X10.5SMD
pins: 1, 2
text: +; 无编码有封装

## CES-330uF/50V
designator EC?, comment 330uF/50V
贴片铝电解电容; 生产商: 三星; 规格型号|UNIQUEI: 330uF_50V_±10%_+105℃; 备注: *; 供应商: *
footprint CD12.5X13.5SMD
pins: 1, 2
text: +; 无编码有封装

## CES-330uF/63V
designator EC?, comment 330uF/63V
贴片铝电解电容; 生产商: 三星; 规格型号|UNIQUEI: 330uF_63V_±10%_+105℃; 备注: *; 供应商: *
footprint CD12.5X16SMD
pins: 1, 2
text: +; 无编码有封装

## CES-470uF/6.3V
designator EC?, comment 470uF/6.3V
贴片铝电解电容; 生产商: 三星; 规格型号|UNIQUEI: 470uF_6.3V_±10%_+105℃; 备注: *; 供应商: *
footprint CD8X10.5SMD
pins: 1, 2
text: +; 无编码有封装

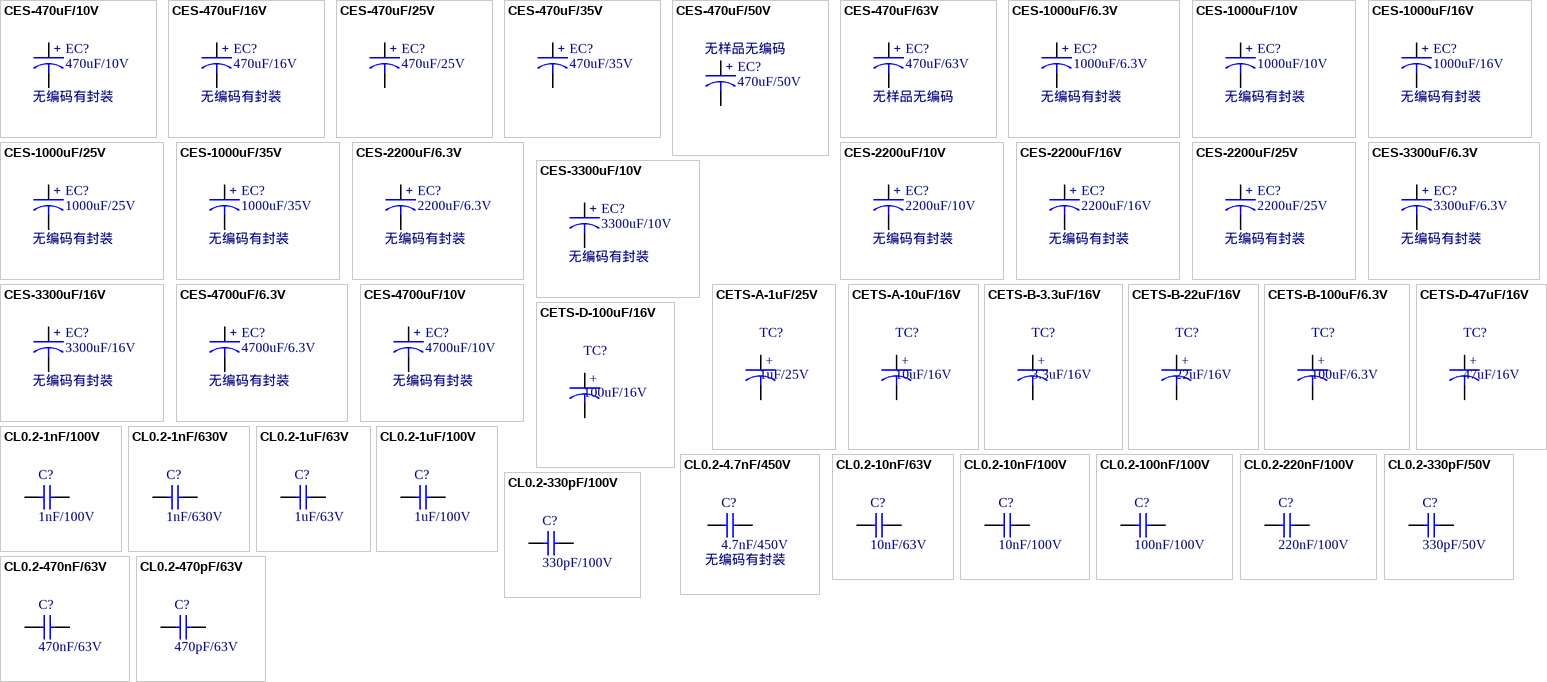
[diagram p4: symbols CES-470uF/10V to CL0.2-470pF/63V]

## CES-470uF/10V
designator EC?, comment 470uF/10V
贴片铝电解电容; 生产商: 三星; 规格型号|UNIQUEI: 470uF_10V_±10%_+105℃; 备注: *; 供应商: *
footprint CD10X10.5SMD
pins: 1, 2
text: +; 无编码有封装

## CES-470uF/16V
designator EC?, comment 470uF/16V
贴片铝电解电容; 生产商: 三星; 规格型号|UNIQUEI: 470uF_16V_±10%_+105℃; 备注: *; 供应商: *
footprint CD10X10.5SMD
pins: 1, 2
text: +; 无编码有封装

## CES-470uF/25V
designator EC?, comment 470uF/25V
贴片铝电解电容; 生产商: 三星; 货品编码: 301034; 规格型号|UNIQUEI: 470uF_25V_±10%_+105℃; 备注: *; 供应商: *
footprint CD10X10.5SMD
pins: 1, 2
text: +

## CES-470uF/35V
designator EC?, comment 470uF/35V
贴片铝电解电容; 生产商: 三星; 货品编码: 301036; 规格型号|UNIQUEI: 470uF_35V_±10%_+105℃; 备注: *; 供应商: *
footprint CD12.5X13.5SMD
pins: 1, 2
text: +

## CES-470uF/50V
designator EC?, comment 470uF/50V
贴片铝电解电容; 生产商: 三星; 规格型号|UNIQUEI: 470uF_50V_±10%_+105℃; 备注: *; 供应商: *
footprint CD12.5X16SMD
pins: 1, 2
text: 无样品无编码; +

## CES-470uF/63V
designator EC?, comment 470uF/63V
贴片铝电解电容; 生产商: 三星; 规格型号|UNIQUEI: 470uF_63V_±10%_+105℃; 供应商: *; 备注: *
footprint CD16X16.5SMD
pins: 1, 2
text: +; 无样品无编码

## CES-1000uF/6.3V
designator EC?, comment 1000uF/6.3V
贴片铝电解电容; 生产商: 三星; 规格型号|UNIQUEI: 1000uF_6.3V_±10%_+105℃; 备注: *; 供应商: *
footprint CD10X10.5SMD
pins: 1, 2
text: +; 无编码有封装

## CES-1000uF/10V
designator EC?, comment 1000uF/10V
贴片铝电解电容; 生产商: 三星; 规格型号|UNIQUEI: 1000uF_10V_±10%_+105℃; 备注: *; 供应商: *
footprint CD10X10.5SMD
pins: 1, 2
text: +; 无编码有封装

## CES-1000uF/16V
designator EC?, comment 1000uF/16V
贴片铝电解电容; 生产商: 三星; 规格型号|UNIQUEI: 1000uF_16V_±10%_+105℃; 备注: *; 供应商: *
footprint CD12.5X13.5SMD
pins: 1, 2
text: +; 无编码有封装

## CES-1000uF/25V
designator EC?, comment 1000uF/25V
贴片铝电解电容; 生产商: 三星; 规格型号|UNIQUEI: 1000uF_25V_±10%_+105℃; 备注: *; 供应商: *
footprint CD12.5X13.5SMD
pins: 1, 2
text: +; 无编码有封装

## CES-1000uF/35V
designator EC?, comment 1000uF/35V
贴片铝电解电容; 生产商: 三星; 规格型号|UNIQUEI: 1000uF_35V_±10%_+105℃; 备注: *; 供应商: *
footprint CD16X16.5SMD
pins: 1, 2
text: +; 无编码有封装

## CES-2200uF/6.3V
designator EC?, comment 2200uF/6.3V
贴片铝电解电容; 生产商: 三星; 规格型号|UNIQUEI: 2200uF_6.3V_±10%_+105℃; 备注: *; 供应商: *
footprint CD12.5X13.5SMD
pins: 1, 2
text: +; 无编码有封装

## CES-2200uF/10V
designator EC?, comment 2200uF/10V
贴片铝电解电容; 生产商: 三星; 规格型号|UNIQUEI: 2200uF_10V_±10%_+105℃; 备注: *; 供应商: *
footprint CD12.5X13.5SMD
pins: 1, 2
text: +; 无编码有封装

## CES-2200uF/16V
designator EC?, comment 2200uF/16V
贴片铝电解电容; 生产商: 三星; 规格型号|UNIQUEI: 2200uF_16V_±10%_+105℃; 备注: *; 供应商: *
footprint CD16X16.5SMD
pins: 1, 2
text: +; 无编码有封装

## CES-2200uF/25V
designator EC?, comment 2200uF/25V
贴片铝电解电容; 生产商: 三星; 规格型号|UNIQUEI: 2200uF_25V_±10%_+105℃; 备注: *; 供应商: *
footprint CD16X16.5SMD
pins: 1, 2
text: +; 无编码有封装

## CES-3300uF/6.3V
designator EC?, comment 3300uF/6.3V
贴片铝电解电容; 生产商: 三星; 规格型号|UNIQUEI: 3300uF_6.3V_±10%_+105℃; 备注: *; 供应商: *
footprint CD12.5X16SMD
pins: 1, 2
text: +; 无编码有封装

## CES-3300uF/10V
designator EC?, comment 3300uF/10V
贴片铝电解电容; 生产商: 三星; 规格型号|UNIQUEI: 3300uF_10V_±10%_+105℃; 备注: *; 供应商: *
footprint CD16X16.5SMD
pins: 1, 2
text: +; 无编码有封装

## CES-3300uF/16V
designator EC?, comment 3300uF/16V
贴片铝电解电容; 生产商: 三星; 规格型号|UNIQUEI: 3300uF_16V_±10%_+105℃; 备注: *; 供应商: *
footprint CD16X16.5SMD
pins: 1, 2
text: +; 无编码有封装

## CES-4700uF/6.3V
designator EC?, comment 4700uF/6.3V
贴片铝电解电容; 生产商: 三星; 规格型号|UNIQUEI: 4700uF_6.3V_±10%_+105℃; 备注: *; 供应商: *
footprint CD16X16.5SMD
pins: 1, 2
text: +; 无编码有封装

## CES-4700uF/10V
designator EC?, comment 4700uF/10V
贴片铝电解电容; 生产商: 三星; 规格型号|UNIQUEI: 4700uF_10V_±10%_+105℃; 备注: *; 供应商: *
footprint CD16X16.5SMD
pins: 1, 2
text: +; 无编码有封装

## CETS-A-1uF/25V
designator TC?, comment 1uF/25V
贴片电容-钽电容; 规格型号: 1uF/25V_A; 货品编码: 301015; 供应商: *; 备注: *
footprint TC3216/A
pins: 1, 2
text: +

## CETS-A-10uF/16V
designator TC?, comment 10uF/16V
贴片电容-钽电容; 规格型号: 10uF/16V_A; 货品编码: 301018; 供应商: *; 备注: *
footprint TC3216/A
footprint TC3528/B
pins: 1, 2
text: +

## CETS-B-3.3uF/16V
designator TC?, comment 3.3uF/16V
贴片电容-钽电容; 规格型号: 3.3uF/16V_B; 货品编码: 301016; 供应商: *; 备注: *
footprint TC3528/B
pins: 1, 2
text: +

## CETS-B-22uF/16V
designator TC?, comment 22uF/16V
贴片电容-钽电容; 规格型号: 22uF/16V_B; 货品编码: 301017; 供应商: *; 备注: *
footprint TC3528/B
pins: 1, 2
text: +

## CETS-B-100uF/6.3V
designator TC?, comment 100uF/6.3V
贴片电容-钽电容; 规格型号: 100uF/6.3V_B; 货品编码: 301021; 供应商: *; 备注: *
footprint TC3528/B
pins: 1, 2
text: +

## CETS-D-47uF/16V
designator TC?, comment 47uF/16V
贴片电容-钽电容; 规格型号: 47uF/16V_D; 货品编码: 301019; 供应商: *; 备注: *
footprint TC7343/D
pins: 1, 2
text: +

## CETS-D-100uF/16V
designator TC?, comment 100uF/16V
贴片电容-钽电容; 规格型号: 100uF/16V_D; 货品编码: 301020; 供应商: *; 备注: *
footprint TC7343/D
pins: 1, 2
text: +

## CL0.2-1nF/100V
designator C?, comment 1nF/100V
插件电容-CL21; 规格型号: 1nF/100V_+105℃; 货品编码: 302061; 生产商: Weidy; 备注: *; 供应商: *
footprint C-RAD0.2-7.62X2.54 (RAD0.2(0.3/0.1))
pins: 1, 2

## CL0.2-1nF/630V
designator C?, comment 1nF/630V
插件电容-CL11; 规格型号: 1nF/630V_+105℃; 货品编码: 302082; 备注: *; 供应商: *
footprint C-RAD0.2-7.62X2.54
pins: 1, 2

## CL0.2-1uF/63V
designator C?, comment 1uF/63V
插件电容-CL23B; 规格型号: 1uF/63V_+105℃; 货品编码: 302058; 生产商: Weidy; 备注: *; 供应商: *
footprint C-RAD0.2-7.62X6 (RAD0.2(0.3/0.23))
pins: 1, 2

## CL0.2-1uF/100V
designator C?, comment 1uF/100V
插件电容-CL23B; 规格型号: 1uF/100V_+105℃; 货品编码: 302074; 生产商: Weidy; 备注: *; 供应商: *
footprint C-RAD0.2-7.62X6 (RAD0.2(0.3/0.23))
pins: 1, 2

## CL0.2-4.7nF/450V
designator C?, comment 4.7nF/450V
插件电容-CL23B; 规格型号: 4.7nF/450V_+105℃; 生产商: Weidy; 备注: *; 供应商: *
footprint C-RAD0.2-7.62X6 (RAD0.2(0.3/0.23))
pins: 1, 2
text: 无编码有封装

## CL0.2-10nF/63V
designator C?, comment 10nF/63V
插件电容-CL21; 规格型号: 10nF/63V_+105℃; 货品编码: 302057; 生产商: Weidy; 备注: *; 供应商: *
footprint C-RAD0.2-7.62X2.54 (RAD0.2(0.3/0.1))
pins: 1, 2

## CL0.2-10nF/100V
designator C?, comment 10nF/100V
插件电容-CL23B; 规格型号: 10nF/100V_+105℃; 货品编码: 302062; 生产商: Weidy; 备注: *; 供应商: *
footprint C-RAD0.2-7.62X2.54 (RAD0.2(0.3/0.1))
pins: 1, 2

## CL0.2-100nF/100V
designator C?, comment 100nF/100V
插件电容-CL23B; 规格型号: 100nF/100V_+105℃; 货品编码: 302063; 生产商: Weidy; 备注: *; 供应商: *
footprint C-RAD0.2-7.62X2.54 (RAD0.2(0.3/0.1))
pins: 1, 2

## CL0.2-220nF/100V
designator C?, comment 220nF/100V
插件电容-CL21X-B; 规格型号: 220nF/100V_+105℃; 货品编码: 302012; 生产商: Weidy; 备注: *; 供应商: *
footprint C-RAD0.2-8.89X3.81 (RAD0.2)
pins: 1, 2

## CL0.2-330pF/50V
designator C?, comment 330pF/50V
插件电容-CL21; 规格型号: 330pF/50V_+105℃; 货品编码: 302003; 生产商: Weidy; 备注: *; 供应商: *
footprint C-RAD0.2-7.62X2.54 (RAD0.2(0.3/0.1))
pins: 1, 2

## CL0.2-330pF/100V
designator C?, comment 330pF/100V
插件电容-CL21; 规格型号: 330pF/100V_+105℃; 货品编码: 302081; 生产商: Weidy; 备注: *; 供应商: *
footprint C-RAD0.2-7.62X2.54 (RAD0.2(0.3/0.1))
pins: 1, 2

## CL0.2-470nF/63V
designator C?, comment 470nF/63V
插件电容-CL23B; 规格型号: 470nF/63V_+105℃; 货品编码: 302060; 生产商: Weidy; 备注: *; 供应商: *
footprint C-RAD0.2-7.62X6 (RAD0.2(0.3/0.23))
pins: 1, 2

## CL0.2-470pF/63V
designator C?, comment 470pF/63V
插件电容-CL23B; 规格型号: 470pF/63V_+105℃; 货品编码: 302059; 生产商: Weidy; 备注: *; 供应商: *
footprint C-RAD0.2-7.62X6 (RAD0.2(0.3/0.23))
pins: 1, 2

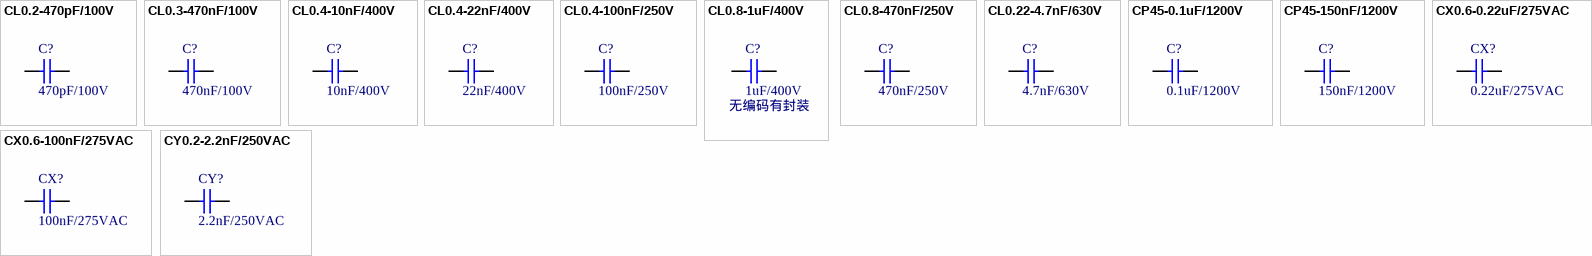
[diagram p5: symbols CL0.2-470pF/100V to CY0.2-2.2nF/250VAC]

## CL0.2-470pF/100V
designator C?, comment 470pF/100V
插件电容-CL23B; 规格型号: 470pF/100V_+105℃; 货品编码: 302072; 生产商: Weidy; 备注: *; 供应商: *
footprint C-RAD0.2-7.62X6 (RAD0.2(0.3/0.23))
pins: 1, 2

## CL0.3-470nF/100V
designator C?, comment 470nF/100V
插件电容-CL21X-B; 规格型号: 470nF/100V_+105℃; 货品编码: 302064; 生产商: Weidy; 备注: *; 供应商: *
footprint C-RAD0.3-11.43X3.81 (RAD0.3)
pins: 1, 2

## CL0.4-10nF/400V
designator C?, comment 10nF/400V
插件电容-CL21; 规格型号: 10nF/400V_+105℃; 货品编码: 302017; 生产商: Weidy; 备注: *; 供应商: *
footprint C-RAD0.4-13.71X7.62 (RAD0.4(0.5/0.3))
pins: 1, 2

## CL0.4-22nF/400V
designator C?, comment 22nF/400V
插件电容-CL23B; 规格型号: 22nF/400V_+105℃; 货品编码: 302019; 生产商: Weidy; 备注: *; 供应商: *
footprint C-RAD0.4-13.71X7.62 (RAD0.4(0.5/0.3))
pins: 1, 2

## CL0.4-100nF/250V
designator C?, comment 100nF/250V
插件电容-CL21; 规格型号: 100nF/250V_+105℃; 货品编码: 302013; 生产商: Weidy; 备注: *; 供应商: *
footprint C-RAD0.4-13.71X7.62 (RAD0.4(0.5/0.3))
pins: 1, 2

## CL0.8-1uF/400V
designator C?, comment 1uF/400V
插件电容-CL21; 规格型号: 1uF/400V_+105℃; 生产商: Weidy; 备注: *; 供应商: *
footprint C-RAD0.8-23.87X7.62 (RAD0.8(0.9/0.3))
pins: 1, 2
text: 无编码有封装

## CL0.8-470nF/250V
designator C?, comment 470nF/250V
插件电容-CL21; 规格型号: 470nF/250V_+105℃; 货品编码: 302014; 生产商: Weidy; 备注: *; 供应商: *
footprint C-RAD0.8-23.87X7.62 (RAD0.8(0.9/0.3))
pins: 1, 2

## CL0.22-4.7nF/630V
designator C?, comment 4.7nF/630V
插件电容-CL11; 规格型号: 4.7nF/630V_+105℃; 货品编码: 302083; 备注: *; 供应商: *
footprint C-RAD0.22-7.62X3.81 (RAD0.22(0.3/0.15))
pins: 1, 2

## CP45-0.1uF/1200V
designator C?, comment 0.1uF/1200V
插件电容-无感轴向; 规格型号: 0.1uF/1200V_+105℃; 货品编码: 218004; 备注: *; 供应商: *
footprint C-RAD45-33X16
pins: 1, 2

## CP45-150nF/1200V
designator C?, comment 150nF/1200V
插件电容-无感轴向; 规格型号: 150nF/1200V_+105℃; 货品编码: 302109; 备注: *; 供应商: *
footprint C-RAD45-33X19
pins: 1, 2

## CX0.6-0.22uF/275VAC
designator CX?, comment 0.22uF/275VAC
插件电容-安规X2; 规格型号: 0.22uF/275VAC_+105℃; 货品编码: 302068; 备注: *; 供应商: *
footprint C-RAD0.6-20.32X9.65 (RAD0.6(0.8/0.4))
pins: 1, 2

## CX0.6-100nF/275VAC
designator CX?, comment 100nF/275VAC
插件电容-安规X2; 规格型号: 100nF/275VAC_+105℃; 货品编码: 302069; 备注: *; 供应商: *
footprint C-RAD0.6-20.32X6.09 (RAD0.6(0.8/0.23))
pins: 1, 2

## CY0.2-2.2nF/250VAC
designator CY?, comment 2.2nF/250VAC
插件电容-安规Y2; 规格型号: 2.2nF/250VAC_+105℃; 货品编码: 302091; 生产商: Weidy; 备注: *; 供应商: *
footprint C-RAD0.3-11.43X3.81 (RAD0.3)
pins: 1, 2